# EAGLE library part RF7198 (library Deegou_IC)
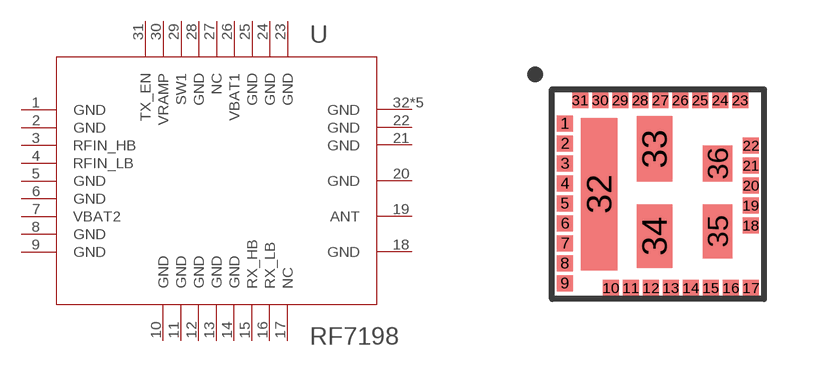
[diagram p96: symbol with the pads of RF7198; footprint RF7198]

Designator prefix U

## RF7198  [RF7198]
1  GND
2  GND
3  RFIN_HB
4  RFIN_LB
5  GND
6  GND
7  VBAT2
8  GND
9  GND
10  GND
11  GND
12  GND
13  GND
14  GND
15  RX_HB
16  RX_LB
17  NC
18  GND
19  ANT
20  GND
21  GND
22  GND
23  GND
24  GND
25  GND
26  VBAT1
27  NC
28  GND
29  SW1
30  VRAMP
31  TX_EN
32  GND
33  GND
34  GND
35  GND
36  GND

## Footprint RF7198 (pad centres in mm)
smd 0.4 x 0.4: 1 -2.325,1.77; 2 -2.325,1.27; 3 -2.325,0.77; 4 -2.325,0.27; 5 -2.325,-0.23; 6 -2.325,-0.73; 7 -2.325,-1.23; 8 -2.325,-1.73; 9 -2.325,-2.23; 10 -1.175,-2.35; 11 -0.675,-2.35; 12 -0.175,-2.35; 13 0.325,-2.35; 14 0.825,-2.35; 15 1.325,-2.35; 16 1.825,-2.35; 17 2.325,-2.35; 18 2.325,-0.785; 19 2.325,-0.285; 20 2.325,0.215; 21 2.325,0.715; 22 2.325,1.215; 23 2.055,2.35; 24 1.555,2.35; 25 1.055,2.35; 26 0.555,2.35; 27 0.055,2.35; 28 -0.445,2.35; 29 -0.945,2.35; 30 -1.445,2.35; 31 -1.945,2.35
smd 0.905 x 3.815: 32 -1.473,0
smd 0.885 x 1.635: 33 -0.083,1.133
smd 0.885 x 1.59: 34 -0.083,-1.055
smd 0.735 x 1.345: 35 1.493,-0.933
smd 0.735 x 0.9: 36 1.493,0.765